# Altium footprint library DIODE.PCBLIB: 59 footprints (part 1 of 4)
Each footprint in its own frame and in the unit in brackets; x right, y up, seen from the top. Pads: shape width x height; smd on the part's side, far side on the other; paste and mask are expansions set on the pad; w line width, h text height; cw(c..) or ccw(c..) is an arc to the next point about the centre after c.
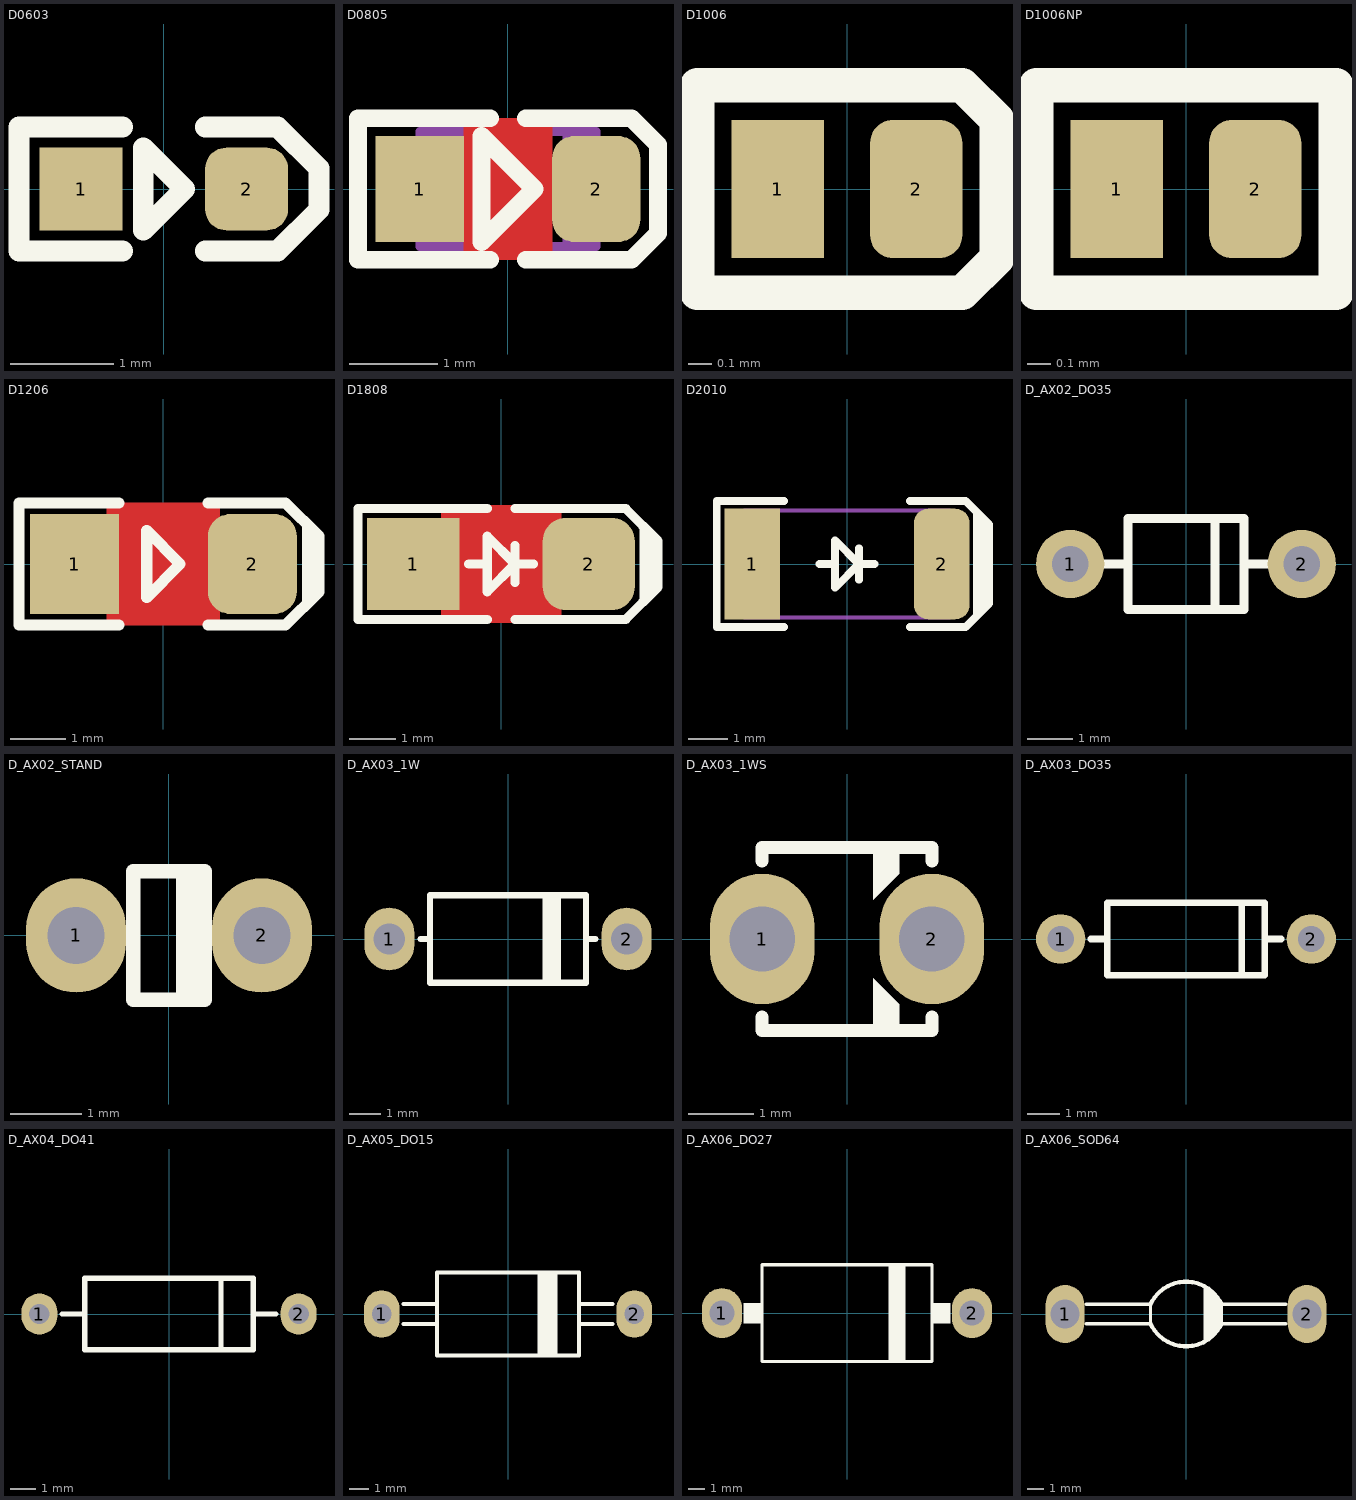
[diagram p0: the footprints below, top view; thin cyan lines are the x and y axes]

## D0603 [mm] "DIODE 0603, CDSU101A (Package SOD-523F)"
pads (2):
  rect 0.8x0.8 smd paste-2 mask+0.075: 1(-0.8,0)
  rrect50% 0.8x0.8 smd paste-2 mask+0.075: 2(0.8,0)
Top Overlay:
  lines w0.2: -0.4,-0.6 -1.4,-0.6 -1.4,0.6 -0.4,0.6 ; 0.4,-0.6 1.1,-0.6 1.5,-0.2 1.5,0.2 1.1,0.6 0.4,0.6 ; -0.2,-0.4 0.2,0 -0.2,0.4 -0.2,-0.4
Top Paste:
  region: -0.8,0.35 -0.73,0.35 -0.602,0.297 -0.503,0.198 -0.45,0.07 -0.45,0 -0.45,-0.07 -0.503,-0.198 -0.602,-0.297 -0.73,-0.35 -0.8,-0.35 -1,-0.35 -1.03,-0.35 -1.085,-0.327 -1.127,-0.285 -1.15,-0.23 -1.15,-0.2 -1.15,0.2 -1.15,0.23 -1.127,0.285 -1.085,0.327 -1.03,0.35 -1,0.35
  region: 0.8,0.35 0.73,0.35 0.602,0.297 0.503,0.198 0.45,0.07 0.45,0 0.45,-0.07 0.503,-0.198 0.602,-0.297 0.73,-0.35 0.8,-0.35 1,-0.35 1.03,-0.35 1.085,-0.327 1.127,-0.285 1.15,-0.23 1.15,-0.2 1.15,0.2 1.15,0.23 1.127,0.285 1.085,0.327 1.03,0.35 1,0.35
3D body "User Library-D0603.step": height 0.56, standoff 0, extent -0.85,-0.4 0.85,0.4

## D0805 [mm] "DIODE0805, SOD323 (PHILIPS), SC-76 (JEITA), DL-35, MicroMELF"
height 1.4
pads (2):
  rect 1x1.2 smd paste-2 mask+0.075: 1(-1,0)
  rrect50% 1x1.2 smd paste-2 mask+0.075: 2(1,0)
Top Layer:
  pour cut-out: -0.5,0.8 0.5,0.8 0.5,-0.8 -0.5,-0.8
Top Overlay:
  lines w0.2: -0.2,-0.8 -1.7,-0.8 -1.7,0.8 -0.2,0.8 ; 0.2,-0.8 1.4,-0.8 1.7,-0.5 1.7,0.5 1.4,0.8 0.2,0.8 ; -0.3,-0.6 0.3,0 -0.3,0.6 -0.3,-0.6
Top Paste:
  region: 0.9,0.5 0.82,0.5 0.673,0.439 0.561,0.327 0.5,0.18 0.5,0.1 0.5,-0.1 0.5,-0.18 0.561,-0.327 0.673,-0.439 0.82,-0.5 0.9,-0.5 1.15,-0.5 1.18,-0.5 1.235,-0.477 1.277,-0.435 1.3,-0.38 1.3,-0.35 1.3,0.35 1.3,0.38 1.277,0.435 1.235,0.477 1.18,0.5 1.15,0.5
  region: -0.9,0.5 -0.82,0.5 -0.673,0.439 -0.561,0.327 -0.5,0.18 -0.5,0.1 -0.5,-0.1 -0.5,-0.18 -0.561,-0.327 -0.673,-0.439 -0.82,-0.5 -0.9,-0.5 -1.15,-0.5 -1.18,-0.5 -1.235,-0.477 -1.277,-0.435 -1.3,-0.38 -1.3,-0.35 -1.3,0.35 -1.3,0.38 -1.277,0.435 -1.235,0.477 -1.18,0.5 -1.15,0.5
Mechanical 13:
  region: 0.995,-0.19 0.842,-0.19 0.842,-0.65 0.995,-0.65
  region: 0.995,0.65 0.842,0.65 0.842,0.191 0.995,0.191
  region: 0.848,0.65 0.619,0.65 0.619,-0.65 0.848,-0.65
  rectangle: -0.995,-0.65 -0.842,-0.191
  rectangle: -0.995,0.19 -0.842,0.65
  rectangle: -0.848,-0.65 -0.619,0.65
  lines w0.102: -0.305,0.356 -0.076,0.025 -0.33,0 -0.076,-0.33 ; 0.102,0.356 0.33,0.025 0.076,0 0.33,-0.33 ; -0.076,-0.33 -0.229,-0.279 -0.076,-0.178 -0.076,-0.33 ; 0.33,-0.33 0.178,-0.279 0.33,-0.178 0.33,-0.33 ; -1,-0.65 -1,-0.191 ccw(c-1,0) -1,0.191 -1,0.65 1,0.65 1,0.191 ccw(c1,0) 1,-0.191 1,-0.65 -1,-0.65
3D body "BZY55C8V2 RBG.STEP": height 0.85, standoff 0, extent -1,-0.625 1,0.625

## D1006 [mm] "DIODE, CLP1006-2, DSN1006-2, SOD993, 1X0.6mm"
height 0.3
pads (2):
  rect 0.4x0.6 smd paste-0.05 mask+0.05: 1(-0.3,0)
  rrect50% 0.4x0.6 smd paste-0.05 mask+0.05: 2(0.3,0)
Top Overlay:
  lines w0.15: -0.65,-0.45 0.5,-0.45 0.65,-0.3 0.65,0.3 0.5,0.45 -0.65,0.45 -0.65,-0.45
3D body: height 0.02, standoff 0, extent 0.175,-0.25 0.475,0.25
3D body: height 0.02, standoff 0, extent -0.475,-0.25 -0.175,0.25
3D body: height 0.3, standoff 0.02, extent -0.5,-0.3 0.5,0.3
3D body: height 0.31, standoff 0.3, extent 0.4,-0.25 0.45,0.25
3D body: height 0.31, standoff 0.3, extent 0.3,-0.25 0.35,0.25

## D1006NP [mm] "DSN1006-2, Bidirectional, 1X0.6mm"
height 0.3
pads (2):
  rect 0.4x0.6 smd paste-0.05 mask+0.05: 1(-0.3,0)
  rrect50% 0.4x0.6 smd paste-0.05 mask+0.05: 2(0.3,0)
Top Overlay:
  lines w0.15: -0.65,-0.45 -0.65,0.45 0.65,0.45 0.65,-0.45 -0.65,-0.45
3D body: height 0.31, standoff 0.3, extent 0.3,-0.25 0.35,0.25
3D body: height 0.31, standoff 0.3, extent 0.4,-0.25 0.45,0.25
3D body: height 0.3, standoff 0.02, extent -0.5,-0.3 0.5,0.3
3D body: height 0.02, standoff 0, extent -0.475,-0.25 -0.175,0.25
3D body: height 0.02, standoff 0, extent 0.175,-0.25 0.475,0.25

## D1206 [mm] "SOD123, miniMELF, DO-213AA, MLL34, 320X160D"
pads (2):
  rect 1.6x1.8 smd paste-2 mask+0.075: 1(-1.6,0)
  rrect50% 1.6x1.8 smd paste-2 mask+0.075: 2(1.6,0)
Top Layer:
  pour cut-out: -1.016,1.1 -1.016,-1.1 1.016,-1.1 1.016,1.1
Top Overlay:
  region: 2.5,0.8 2.5,-0.8 2.8,-0.5 2.8,0.5
  lines w0.2: -0.8,-1.1 -2.6,-1.1 -2.6,1.1 -0.8,1.1 ; 0.8,-1.1 2.2,-1.1 2.8,-0.5 2.8,0.5 2.2,1.1 0.8,1.1 ; -0.3,-0.6 -0.3,0.6 0.3,0 -0.3,-0.6
Top Paste:
  region: -1.15,0.7 -1.1,0.7 -1.008,0.662 -0.938,0.592 -0.9,0.5 -0.9,0.45 -0.9,-0.45 -0.9,-0.5 -0.938,-0.592 -1.008,-0.662 -1.1,-0.7 -1.15,-0.7 -1.625,-0.7 -1.68,-0.7 -1.781,-0.658 -1.858,-0.581 -1.9,-0.48 -1.9,-0.425 -1.9,0.45 -1.9,0.5 -1.862,0.592 -1.792,0.662 -1.7,0.7 -1.65,0.7
  region: 1.15,0.7 1.1,0.7 1.008,0.662 0.938,0.592 0.9,0.5 0.9,0.45 0.9,-0.45 0.9,-0.5 0.938,-0.592 1.008,-0.662 1.1,-0.7 1.15,-0.7 1.625,-0.7 1.68,-0.7 1.781,-0.658 1.858,-0.581 1.9,-0.48 1.9,-0.425 1.9,0.45 1.9,0.5 1.862,0.592 1.792,0.662 1.7,0.7 1.65,0.7
Mechanical 13:
  rectangle: 1.316,-0.8 1.8,0.8
  lines w0.1: -1.8,-0.8 -1.8,0.8 1.8,0.8 1.8,-0.8 -1.8,-0.8
3D body "SOD-123FL.STEP": height 1.35, standoff 0, extent -1.925,-1.076 1.925,1.077

## D1808 [mm] "MELF, DIOD1810, SOD-87"
height 2
pads (2):
  rect 2x2 smd paste-0.2: 1(-1.9,0)
  rrect50% 2x2 smd paste-0.2: 2(1.9,0)
Top Layer:
  pour cut-out: -1.3,1.27 1.3,1.27 1.3,-1.27 -1.3,-1.27
Top Overlay:
  region: 3,0.9 3,-0.9 3.4,-0.5 3.4,0.5
  lines w0.2: -0.7,0 -0.3,0 ; -0.3,-1.2 -3.1,-1.2 -3.1,1.2 -0.3,1.2 ; 0.3,-1.2 2.7,-1.2 3.4,-0.5 3.4,0.5 2.7,1.2 0.3,1.2 ; 0.3,-0.4 0.3,0.4 ; 0.7,0 0.3,0 ; 0.3,0 -0.3,-0.6 -0.3,0.6 0.3,0
3D body "User Library-SOD-87.step": height 2, standoff 0, extent -1.75,-1 1.75,1

## D2010 [mm] "MELF Diode, 2-Leads, Body 5.0X2.5mm"
height 2.7
pads (2):
  rect 1.4x2.8 smd paste-0.2 mask+0.1: 1(-2.4,0)
  rrect50% 1.4x2.8 smd paste-0.2 mask+0.1: 2(2.4,0)
Top Overlay:
  region: 3.2,1.4 3.2,-1.4 3.6,-1 3.6,1
  lines w0.2: -1.6,-1.6 -3.3,-1.6 -3.3,1.6 -1.6,1.6 ; -0.7,0 -0.3,0 ; 0.3,-0.4 0.3,0.4 ; 0.7,0 0.3,0 ; 1.6,-1.6 3,-1.6 3.6,-1 3.6,1 3,1.6 1.6,1.6 ; 0.3,0 -0.3,0.6 -0.3,-0.6 0.3,0
Mechanical 13:
  rectangle: 1.901,-1.35 2.6,1.35
  lines w0.1: -2.6,-1.35 2.6,-1.35 2.6,1.35 -2.6,1.35 -2.6,-1.35
3D body "User Library-Diode MELF5025.step": height 2.5, standoff 0, extent -2.5,-1.25 2.5,1.25

## D_AX02_DO35 [mm] "DIODE 0.2 INCH SPACING DO-35, 1N4148"
height 1.8
pads (2):
  round 1.5 hole 0.8: 1(-2.54,0) 2(2.54,0)
Top Overlay:
  lines w0.2: -1.905,0 -1.27,0 ; 0.635,-1 0.635,1 ; 1.27,0 1.93,0 ; -1.27,-1 -1.27,1 1.27,1 1.27,-1 -1.27,-1
3D body "User Library-DO-35G-20.step": height 1.82, standoff -2, extent -2.815,-0.898 2.815,0.898

## D_AX02_STAND [mm] "DIODE 0.2 INCH SPACING DO-35, 1N4148"
height 1.8
pads (2):
  oval 1.4x1.6 hole 0.8: 1(-1.3,0) 2(1.3,0)
Top Overlay:
  rectangle: 0.1,-1 0.5,0.9
  lines w0.2: -0.5,-0.9 0.5,-0.9 0.5,0.9 -0.5,0.9 -0.5,-0.9
3D body "1N4148_Stand_V2008.STEP": height 5.32, standoff -1.2, extent -2.083,-0.813 1.498,0.837

## D_AX03_1W [mm] "DIODE 0.3 INCH SPACING 1W, 1N4001"
pads (2):
  oval 1.6x2 hole 1: 1(-3.8,0) 2(3.8,0)
Top Overlay:
  rectangle: 1.1,-1.4 1.7,1.4
  lines w0.2: -2.8,0 -2.5,0 ; 2.5,0 2.8,0 ; -2.5,-1.4 -2.5,1.4 2.5,1.4 2.5,-1.4 -2.5,-1.4
3D body "Zener 1W.STEP": height 3.03, standoff -1.3, extent -4.216,-1.333 4.191,1.334

## D_AX03_1WS [mm] "DIODE 0.3 INCH SPACING 1W STAND"
pads (2):
  oval 1.6x2 hole 1: 1(-1.3,0) 2(1.3,0)
Top Overlay:
  region: 0.8,-1.4 0.8,-1 0.4,-0.6 0.4,-1.4
  region: 0.8,1.4 0.8,1 0.4,0.6 0.4,1.4
  lines w0.2: -1.3,-1.2 -1.3,-1.4 1.3,-1.4 1.3,-1.2 ; -1.3,1.2 -1.3,1.4 1.3,1.4 1.3,1.2
3D body "1N4007_Stand.STEP": height 7.39, standoff -1, extent -2.6,-1.333 1.667,1.333

## D_AX03_DO35 [mm] "DIODE 0.3 INCH SPACING DO35"
pads (2):
  round 1.5 hole 0.8: 1(-3.81,0) 2(3.81,0)
Top Overlay:
  lines w0.2: -2.894,0 -2.4,0 ; 1.7,-1 1.7,1 ; 2.4,0 2.894,0 ; -2.4,-1.1 -2.4,1.1 2.4,1.1 2.4,-1.1 -2.4,-1.1
3D body "User Library-DO-35.step": height 1.96, standoff -2.45, extent -4.09,-0.96 4.09,0.96

## D_AX04_DO41 [mm] "DIODE 0.4 INCH SPACING DO-41"
pads (2):
  oval 1.4x1.6 hole 0.8: 1(-5.08,0) 2(5.08,0)
Top Overlay:
  lines w0.2: -4.2,0 -3.302,0 ; 2.032,-1.27 2.032,1.27 ; 3.302,0 4.2,0 ; -3.302,-1.4 3.302,-1.4 3.302,1.4 -3.302,1.4 -3.302,-1.4
3D body "User Library-DO-41-4.step": height 2.85, standoff -2.35, extent -5.68,-1.32 5.68,1.4

## D_AX05_DO15 [mm] "DIODE 0.4 INCH SPACING DO-15"
pads (2):
  oval 1.8x2.4 hole 1: 1(-6.4,0) 2(6.4,0)
Top Overlay:
  rectangle: 1.5,-2.1 2.5,2.1
  lines w0.2: -5.3,-0.5 -3.602,-0.5 ; -5.3,0.5 -3.602,0.5 ; 3.602,-0.5 5.3,-0.5 ; 3.602,0.5 5.3,0.5 ; -3.6,-2.1 3.6,-2.1 3.6,2.1 -3.6,2.1 -3.6,-2.1
3D body "User Library-DO-15 12_7mm.step": height 4, standoff -3.5, extent -6.76,-2 6.8,2

## D_AX06_DO27 [mm] "DIODE 0.6 INCH SPACING A-500 (Vishay)  DO-201A DO-27 BYW98"
pads (2):
  oval 2.4x3 hole 1.5: 1(-7.5,0) 2(7.5,0)
Top Overlay:
  rectangle: 2.5,-3 3.5,2.9
  region: -6.2,0.6 -5.1,0.6 -5.1,-0.6 -6.2,-0.6
  region: 6.2,0.6 5.1,0.6 5.1,-0.6 6.2,-0.6
  lines w0.2: -5.1,-2.9 -5.1,2.9 5.1,2.9 5.1,-2.9 -5.1,-2.9
3D body "User Library-DO-201AD.STEP": height 7.6, standoff -4, extent -8.28,-2.8 8.28,2.8

## D_AX06_SOD64 [mm] "DIODE 0.6 INCH SPACING SOD-64"
pads (2):
  oval 2.4x3.6 hole 1.8: 1(-7.5,0) 2(7.5,0)
Top Overlay:
  region: 2.2,0.7 1.1,1.8 1.1,-1.9 2.2,-0.8
  lines w0.2: -6.2,-0.6 -2.2,-0.6 -2.2,0.6 -6.2,0.6 ; 6.2,-0.6 2.2,-0.6 2.2,0.6 6.2,0.6
  lines w0.254: -2.2,-0.6 ccw(c0,0.425) 2.2,-0.6 ; -2.2,0.6 cw(c0,-0.425) 2.2,0.6
3D body "User Library-SOD64.step": height 3.82, standoff -3, extent -8.295,-1.812 8.295,1.812